# Altium footprint library ebf_f407 motor dev board_PCB封装_AD格式.PcbLib: 52 footprints (part 2 of 4)
Each footprint in its own frame and in the unit in brackets; x right, y up, seen from the top. Pads: shape width x height; smd on the part's side, far side on the other; paste and mask are expansions set on the pad; w line width, h text height; cw(c..) or ccw(c..) is an arc to the next point about the centre after c.
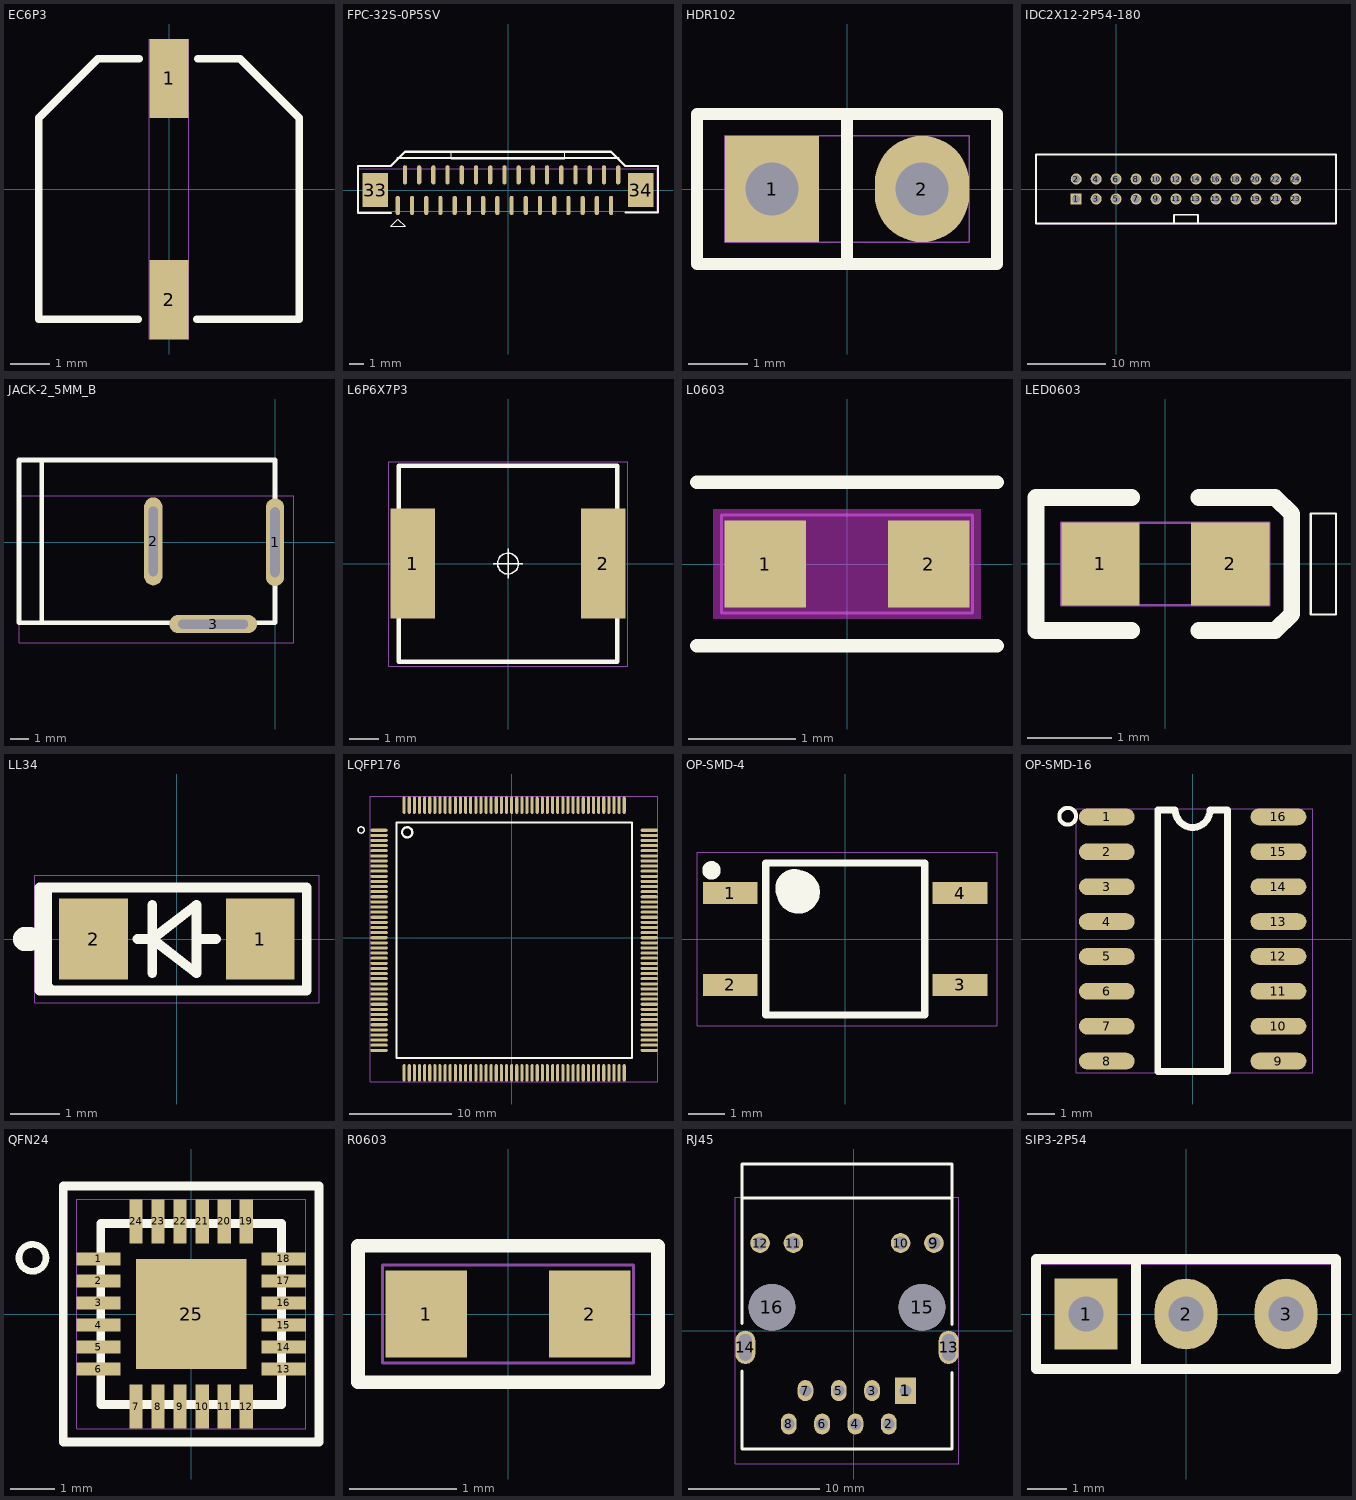
[diagram p1: the footprints below, top view; thin cyan lines are the x and y axes]

## EC6P3 [mm]
pads (2):
  rect 1x2 smd mask+0.051: 1(0,2.8) 2(0,-2.8)
Top Overlay:
  lines w0.2: -0.787,-3.3 -3.3,-3.3 -3.3,1.8 -1.8,3.3 -0.762,3.3 ; 0.711,-3.3 3.3,-3.3 3.3,1.8 1.8,3.3 0.737,3.3
Top Assembly:
  text "C9" at 1.025,0.635 h1.27
Mechanical 20:
  lines w0.025: -0.5,-3.8 0.5,-3.8 0.5,3.8 -0.5,3.8 -0.5,-3.8

## FPC-32S-0P5SV [mm]
pads (34):
  oval 0.3x1.35 smd mask+0.05: 1(-7.75,-1.076) 2(-7.25,1.076) 3(-6.75,-1.076) 4(-6.25,1.076) 5(-5.75,-1.076) 6(-5.25,1.076) 7(-4.75,-1.076) 8(-4.25,1.076) 9(-3.75,-1.076) 10(-3.25,1.076) 11(-2.75,-1.076) 12(-2.25,1.076) 13(-1.75,-1.076) 14(-1.25,1.076) 15(-0.75,-1.076) 16(-0.25,1.076) 17(0.25,-1.076) 18(0.75,1.076) 19(1.25,-1.076) 20(1.75,1.076) 21(2.25,-1.076) 22(2.75,1.076) 23(3.25,-1.076) 24(3.75,1.076) 25(4.25,-1.076) 26(4.75,1.076) 27(5.25,-1.076) 28(5.75,1.076) 29(6.25,-1.076) 30(6.75,1.076) 31(7.25,-1.076) 32(7.75,1.076)
  rect 1.8x2.4 smd mask+0.05: 33(-9.35,0) 34(9.35,0)
Top Overlay:
  lines w0.025: -8.254,-2.548 -7.746,-2.04 -7.238,-2.548 -8.254,-2.548 ; -4,2.208 4,2.208 4,2.708 -4,2.708 -4,2.208
  lines w0.15: -7.75,2.25 7.75,2.25
  lines w0.152: -8.239,-1.597 -10.55,-1.597 -10.55,1.7 -8.25,1.7 -7.25,2.7 7.25,2.7 8.25,1.7 10.55,1.7 10.55,-0.9 10.55,-1.58 8.26,-1.58
Top Assembly:
  text "J11" at -1.082,-0.635 h1.27
Mechanical 20:
  lines w0.025: -10.5,-1.5 10.5,-1.5 10.5,1.5 -10.5,1.5 -10.5,-1.5

## HDR102 [mil]
pads (2):
  rect 62.99x70.87 / inner oval 62.99x70.87 / far side rect 62.99x70.87 hole 35.43 mask+1.97: 1(-50,0)
  oval 62.99x70.87 hole 35.43 mask+1.97: 2(50,0)
Top Overlay:
  lines w8: 0,-50 0,50 ; -100,-50 100,-50 100,50 -100,50 -100,-50
Top Assembly:
  text "J7" at -35,-25 h50
Mechanical 20:
  lines w1: -81.5,-35.43 81.5,-35.43 81.5,35.43 -81.5,35.43 -81.5,-35.43

## IDC2X12-2P54-180 [mil]
pads (24):
  rect 55x55 / inner round 55 / far side rect 55x55 hole 40 mask+2.5: 1(-200,-50)
  round 55 hole 40 mask+2.5: 2(-200,50) 3(-100,-50) 4(-100,50) 5(0,-50) 6(0,50) 7(100,-50) 8(100,50) 9(200,-50) 10(200,50) 11(300,-50) 12(300,50) 13(400,-50) 14(400,50) 15(500,-50) 16(500,50) 17(600,-50) 18(600,50) 19(700,-50) 20(700,50) 21(800,-50) 22(800,50) 23(900,-50) 24(900,50)
Top Overlay:
  lines w8: 290,-170 290,-130 ; 290,-129.37 410,-129.37 ; 410,-170 410,-130 ; -401.57,-173 1101.57,-173 1101.57,173 -401.57,173 -401.57,-173
Top Assembly:
  text "J36" at -56.06,-25 h50
Mechanical 20:
  lines w1: -400,-175 1100,-175 1100,175 -400,175 -400,-175

## JACK-2_5MM_B [mm]
pads (3):
  oval 1x4.81 / inner oval 1x4.81 / far side oval 2x4.81 hole 0.5 slot 3.81 at 90 deg mask+0.05: 1(0,0) 2(-6.659,0.046)
  oval 4.81x1 / inner oval 4.81x1 / far side oval 4.81x2 hole 0.5 slot 3.81 at 0 deg mask+0.05: 3(-3.383,-4.475)
Top Overlay:
  lines w0.254: -12.755,-4.348 -12.755,4.501 ; -14,-4.399 0,-4.399 0,4.501 -14,4.501 -14,-4.399
Top Assembly:
  text "JACK1" at -2.446,-0.635 h1.27
Mechanical 20:
  lines w0.025: -14,-5.491 1.016,-5.491 1.016,2.535 -14,2.535 -14,-5.491

## L6P6X7P3 [mil]
pads (2):
  rect 59.06x145.67 smd mask+1.97: 1(-126,0) 2(126,0)
Top Overlay:
  circle w1.97: c0,0 r13.78
  lines w1.97: -19.69,0 19.69,0 ; 0,-19.69 0,19.69
  lines w6: -145,-130 -145,130 145,130 145,-130 -145,-130
Top Assembly:
  text "L9" at 32.5,25 h50
Mechanical 20:
  lines w1: -158,-136 -158,135 159,135 159,-136 -158,-136

## L0603 [mil]
pads (2):
  rect 30x32 smd mask+2.5: 1(-30,0) 2(30,0)
Top Layer keep-out:
  region: -49,-20 -49,20 49,20 49,-20
Top Overlay:
  lines w5: -55,-30 55,-30 ; -55,30 55,30
Top Assembly:
  text "L2" at -33.69,-25 h50
Mechanical 20:
  lines w1: -46,-18 -46,18 46,18 46,-18 -46,-18

## LED0603 [mil]
pads (2):
  rect 36.61x38.58 smd mask+1.97: 1(-30.31,0) 2(30.32,0)
Top Overlay:
  lines w1: 67.91,-23.62 67.91,23.62 79.73,23.62 79.73,-23.62 67.91,-23.62
  lines w7.87: -15.75,-31.1 -60.43,-31.1 -60.43,31.1 -15.75,31.1 ; 15.75,-31.1 51.18,-31.1 59.06,-23.5 59.06,23.5 51.18,31.1 15.75,31.1
Top Assembly:
  text "D6" at 37.73,25 h50
Mechanical 20:
  lines w1: -48.62,-19.29 48.62,-19.29 48.62,19.29 -48.62,19.29 -48.62,-19.29

## LL34 [mm]
pads (2):
  rect 1.4x1.65 smd: 1(1.7,0) 2(-1.7,0)
Top Overlay:
  circle w0.25: c-3.1,0 r0.12
  circle w0.25: c-3,0 r0.12
  lines w0.025: -0.8,0 -0.5,0 ; -0.5,-0.7 -0.5,0.7 ; 0.4,0 0.8,0 ; -0.5,0 0.4,0.7 0.4,-0.7 -0.5,0 ; -2.65,-1.05 2.65,-1.05 2.65,1.05 -2.65,1.05 -2.65,-1.05
  lines w0.2: -2.6,-1 -2.6,-1.05 -2.8,-1.05 -2.8,1.05 -2.65,1.05 ; -0.8,0 -0.5,0 ; -0.5,-0.7 -0.5,0.7 ; 0.4,0 0.8,0 ; -2.65,1.05 -2.65,-1.05 2.65,-1.05 2.65,1.05 -2.65,1.05 ; -0.5,0 0.4,0.7 0.4,-0.7 -0.5,0
Top Assembly:
  text "D32" at -1.554,-0.635 h1.27
Mechanical 20:
  lines w0.025: -2.9,-1.3 -2.9,1.3 2.9,1.3 2.9,-1.3 -2.9,-1.3

## LQFP176 [mm]
pads (176):
  oval 1.699x0.3 smd mask+0.051: 1(-12.95,10.5) 2(-12.95,10) 3(-12.95,9.5) 4(-12.95,9) 5(-12.95,8.5) 6(-12.95,8) 7(-12.95,7.5) 8(-12.95,7) 9(-12.95,6.5) 10(-12.95,6) 11(-12.95,5.5) 12(-12.95,5) 13(-12.95,4.5) 14(-12.95,4) 15(-12.95,3.5) 16(-12.95,3) 17(-12.95,2.5) 18(-12.95,2) 19(-12.95,1.5) 20(-12.95,1) 21(-12.95,0.5) 22(-12.95,0) 23(-12.95,-0.5) 24(-12.95,-1) 25(-12.95,-1.5) 26(-12.95,-2) 27(-12.95,-2.5) 28(-12.95,-3) 29(-12.95,-3.5) 30(-12.95,-4) 31(-12.95,-4.5) 32(-12.95,-5) 33(-12.95,-5.5) 34(-12.95,-6) 35(-12.95,-6.5) 36(-12.95,-7) 37(-12.95,-7.5) 38(-12.95,-8) 39(-12.95,-8.5) 40(-12.95,-9) 41(-12.95,-9.5) 42(-12.95,-10) 43(-12.95,-10.5) 44(-12.95,-11) 89(13.45,-11) 90(13.45,-10.5) 91(13.45,-10) 92(13.45,-9.5) 93(13.45,-9) 94(13.45,-8.5) 95(13.45,-8) 96(13.45,-7.5) 97(13.45,-7) 98(13.45,-6.5) 99(13.45,-6) 100(13.45,-5.5) 101(13.45,-5) 102(13.45,-4.5) 103(13.45,-4) 104(13.45,-3.5) 105(13.45,-3) 106(13.45,-2.5) 107(13.45,-2) 108(13.45,-1.5) 109(13.45,-1) 110(13.45,-0.5) 111(13.45,0) 112(13.45,0.5) 113(13.45,1) 114(13.45,1.5) 115(13.45,2) 116(13.45,2.5) 117(13.45,3) 118(13.45,3.5) 119(13.45,4) 120(13.45,4.5) 121(13.45,5) 122(13.45,5.5) 123(13.45,6) 124(13.45,6.5) 125(13.45,7) 126(13.45,7.5) 127(13.45,8) 128(13.45,8.5) 129(13.45,9) 130(13.45,9.5) 131(13.45,10) 132(13.45,10.5)
  oval 0.3x1.699 smd mask+0.051: 45(-10.5,-13.2) 46(-10,-13.2) 47(-9.5,-13.2) 48(-9,-13.2) 49(-8.5,-13.2) 50(-8,-13.2) 51(-7.5,-13.2) 52(-7,-13.2) 53(-6.5,-13.2) 54(-6,-13.2) 55(-5.5,-13.2) 56(-5,-13.2) 57(-4.5,-13.2) 58(-4,-13.2) 59(-3.5,-13.2) 60(-3,-13.2) 61(-2.5,-13.2) 62(-2,-13.2) 63(-1.5,-13.2) 64(-1,-13.2) 65(-0.5,-13.2) 66(0,-13.2) 67(0.5,-13.2) 68(1,-13.2) 69(1.5,-13.2) 70(2,-13.2) 71(2.5,-13.2) 72(3,-13.2) 73(3.5,-13.2) 74(4,-13.2) 75(4.5,-13.2) 76(5,-13.2) 77(5.5,-13.2) 78(6,-13.2) 79(6.5,-13.2) 80(7,-13.2) 81(7.5,-13.2) 82(8,-13.2) 83(8.5,-13.2) 84(9,-13.2) 85(9.5,-13.2) 86(10,-13.2) 87(10.5,-13.2) 88(11,-13.2) 133(11,12.95) 134(10.5,12.95) 135(10,12.95) 136(9.5,12.95) 137(9,12.95) 138(8.5,12.95) 139(8,12.95) 140(7.5,12.95) 141(7,12.95) 142(6.5,12.95) 143(6,12.95) 144(5.5,12.95) 145(5,12.95) 146(4.5,12.95) 147(4,12.95) 148(3.5,12.95) 149(3,12.95) 150(2.5,12.95) 151(2,12.95) 152(1.5,12.95) 153(1,12.95) 154(0.5,12.95) 155(0,12.95) 156(-0.5,12.95) 157(-1,12.95) 158(-1.5,12.95) 159(-2,12.95) 160(-2.5,12.95) 161(-3,12.95) 162(-3.5,12.95) 163(-4,12.95) 164(-4.5,12.95) 165(-5,12.95) 166(-5.5,12.95) 167(-6,12.95) 168(-6.5,12.95) 169(-7,12.95) 170(-7.5,12.95) 171(-8,12.95) 172(-8.5,12.95) 173(-9,12.95) 174(-9.5,12.95) 175(-10,12.95) 176(-10.5,12.95)
Top Overlay:
  circle w0.152: c-14.703,10.525 r0.305
  circle w0.22: c-10.2,10.3 r0.5
  lines w0.22: -11.25,-11.75 -11.25,11.25 ; -11.25,-11.75 11.75,-11.75 ; -11.25,-11.75 -11.25,11.25 ; -11.25,-11.75 11.75,-11.75 ; -11.25,11.25 11.75,11.25 ; -11.25,11.25 11.75,11.25 ; 11.75,-11.75 11.75,11.25 ; 11.75,-11.75 11.75,11.25
Top Assembly:
  text "U4" at 1.052,0.635 h1.27
Mechanical 20:
  lines w0.025: -13.8,-14.05 14.3,-14.05 14.3,13.8 -13.8,13.8 -13.8,-14.05

## OP-SMD-4 [mil]
pads (4):
  rect 59.84x24.02 smd: 1(-125.2,50) 2(-125.2,-50) 3(125.2,-50) 4(125.2,50)
Top Overlay:
  circle w9.84: c-145.67,74.8 r5.12
  circle w23.62: c-51.18,51.18 r11.81
  circle w19.69: c-55.12,55.12 r11.14
  lines w1: -86.61,-82.68 -86.61,82.68 86.61,82.68 86.61,-82.68 -86.61,-82.68
  lines w7.87: -86.61,-82.68 -86.61,82.68 86.61,82.68 86.61,-82.68 -86.61,-82.68
Top Assembly:
  text "OP9" at 62.61,25 h50
Mechanical 20:
  lines w1: -161.42,-94.49 165.35,-94.49 165.35,94.49 -161.42,94.49 -161.42,-94.49

## OP-SMD-16 [mil]
pads (16):
  oval 80x24 smd mask+2.5: 1(-123,175) 2(-123,125) 3(-123,75) 4(-123,25) 5(-123,-25) 6(-123,-75) 7(-123,-125) 8(-123,-175) 9(123,-175) 10(123,-125) 11(123,-75) 12(123,-25) 13(123,25) 14(123,75) 15(123,125) 16(123,175)
Top Overlay:
  circle w5.98: c-179.02,175.99 r12.02
  lines w10: -50,-190 -50,185 -25,185 ccw(c0,185) 25,185 50,185 50,-190 -50,-190
Top Assembly:
  text "OP17" at -82.13,-25 h50
Mechanical 20:
  lines w1: -167,-192 -167,187 172,187 172,-192 -167,-192

## QFN24 [mm]
pads (25):
  rect 1x0.3 smd mask+0.05: 1(-2.1,1.25) 2(-2.1,0.75) 3(-2.1,0.25) 4(-2.1,-0.25) 5(-2.1,-0.75) 6(-2.1,-1.25) 13(2.1,-1.25) 14(2.1,-0.75) 15(2.1,-0.25) 16(2.1,0.25) 17(2.1,0.75) 18(2.1,1.25)
  rect 0.3x1 smd mask+0.05: 7(-1.25,-2.1) 8(-0.75,-2.1) 9(-0.25,-2.1) 10(0.25,-2.1) 11(0.75,-2.1) 12(1.25,-2.1) 19(1.25,2.1) 20(0.75,2.1) 21(0.25,2.1) 22(-0.25,2.1) 23(-0.75,2.1) 24(-1.25,2.1)
  rect 2.5x2.5 smd mask+0.05: 25(0,0)
Top Overlay:
  circle w0.152: c-3.599,1.275 r0.305
  lines w0.2: -2.9,-2.9 -2.9,2.9 2.9,2.9 2.9,-2.9 -2.9,-2.9 ; -2.05,-2.05 -2.05,2.05 2.05,2.05 2.05,-2.05 -2.05,-2.05
Top Assembly:
  text "U16" at -1.457,-0.635 h1.27
Mechanical 20:
  lines w0.025: -2.6,-2.6 2.6,-2.6 2.6,2.6 -2.6,2.6 -2.6,-2.6

## R0603 [mil]
pads (2):
  rect 30x32 smd mask+2.5: 1(-30,0) 2(30,0)
Top Overlay:
  lines w5: -55,-25 -55,25 55,25 55,-25 -55,-25
Top Assembly:
  text "R99" at 59.99,25 h50
Mechanical 20:
  lines w1: -46,-18 -46,18 46,18 46,-18 -46,-18

## RJ45 [mil]
pads (16):
  rect 62.99x78.74 / inner oval 62.99x78.74 / far side rect 62.99x78.74 hole 35.43 mask+1.97: 1(155.2,-180)
  oval 47.24x62.99 hole 35.43 mask+1.97: 2(105.2,-280) 3(55.2,-180) 4(5.2,-280) 5(-44.8,-180) 6(-94.8,-280) 7(-144.8,-180) 8(-194.8,-280)
  round 59.06 hole 40.16 mask+2.5: 9(240.83,262.91) 10(140.83,262.91) 11(-180.83,262.91) 12(-280.83,262.91)
  oval 60x100 hole 40 slot 80 at 90 deg mask+2.5: 13(285.12,-50.08) 14(-325.12,-50.08)
  round 140 hole 140 unplated mask+2.5: 15(205,70) 16(-245,70)
Top Overlay:
  lines w7.87: -334.96,397.76 294.96,397.76
  lines w10: -334.96,-120.83 -334.96,-355 294.96,-355 294.96,-125.98 ; -334.96,22.64 -334.96,499.92 294.96,499.92 294.96,18.94
Top Assembly:
  text "J12" at -53.33,-25 h50
Mechanical 20:
  lines w1: -355.12,-400 -355.12,400 315.12,400 315.12,-400 -355.12,-400

## SIP3-2P54 [mil]
pads (3):
  rect 62.99x70.87 hole 35.43 mask+1.97: 1(-100,0)
  oval 62.99x70.87 hole 35.43 mask+1.97: 2(0,0) 3(100,0)
Top Overlay:
  lines w10: -50,-55.12 -50,55.12 ; -150,-55.12 150,-55.12 150,55.12 -150,55.12 -150,-55.12
Top Assembly:
  text "J37" at -57.25,-25 h50
Mechanical 20:
  lines w1: -150,-50 -150,50 150,50 150,-50 -150,-50